# Altium schematic symbol library conn2.SchLib: 1 symbol
Pins are listed as number, name and electrical type; pins without a type are passive.

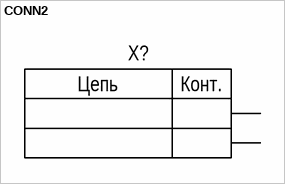
[diagram p0: symbol CONN2]

## CONN2
designator X?
pins: 1, 2
text: Цепь; Конт.